# Altium footprint library MX150 2x10 TH Pitch 3.5mm.PcbLib: 1 footprints
Each footprint in its own frame and in the unit in brackets; x right, y up, seen from the top. Pads: shape width x height; smd on the part's side, far side on the other; paste and mask are expansions set on the pad; w line width, h text height; cw(c..) or ccw(c..) is an arc to the next point about the centre after c.
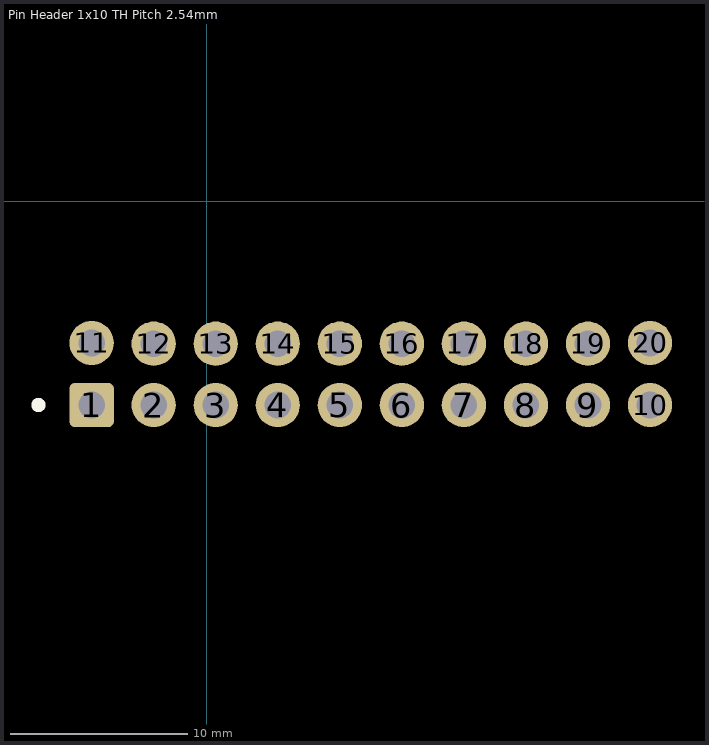
[diagram p0: the footprint, top view; thin cyan lines are the x and y axes]

## Pin Header 1x10 TH Pitch 2.54mm [mm] "PinHeader 1x10 TH Pitch 2.54mm"
height 9.5
pads (20):
  rrect25% 2.5x2.5 hole 1.5: 1(-6.5,-11.5)
  round 2.5 hole 1.5: 2(-3,-11.5) 3(0.5,-11.5) 4(4,-11.5) 5(7.5,-11.5) 6(11,-11.5) 7(14.5,-11.5) 8(18,-11.5) 9(21.5,-11.5) 10(25,-11.5) 11(-6.5,-8) 12(-3,-8.04) 13(0.5,-8.04) 14(4,-8.04) 15(7.5,-8.04) 16(11,-8.04) 17(14.5,-8.04) 18(18,-8.04) 19(21.5,-8.04) 20(25,-8)
Top Overlay:
  circle w0.5: c-9.5,-11.5 r0.15
3D body "MX150_2x10.stp": height 23.64, standoff -2.85, extent -22.518,-50.06 41.173,-7.5